# Altium schematic symbol library PTV09A-4225F-B203.SchLib: 1 symbol
Pins are listed as number, name and electrical type; pins without a type are passive.

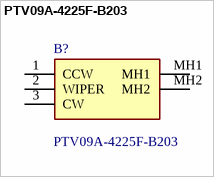
[diagram p0: symbol PTV09A-4225F-B203]

## PTV09A-4225F-B203
designator B?
Potentiometers 20K  20%  9MM CARBON POT; Manufacturer_Name: Bourns; Geometry.Height: 25.5mm; Mouser Part Number: 652-PTV09A-4225FB203; Mouser Price/Stock: https://www.mouser.co.uk/ProductDetail/Bourns/PTV09A-4225F-B203?qs=Qzws7J6gxqyY5BTaAqzbXg%3D%3D; Manufacturer_Part_Number: PTV09A-4225F-B203; Datasheet Link: https://www.bourns.com/docs/Product-Datasheets/PTV09.pdf
footprint PTV09A4225FB203
pins: 1 CCW, 2 WIPER, 3 CW, MH1, MH2